# Altium integrated library Xilinx XC18V00.IntLib: 20 symbols (part 2 of 2)
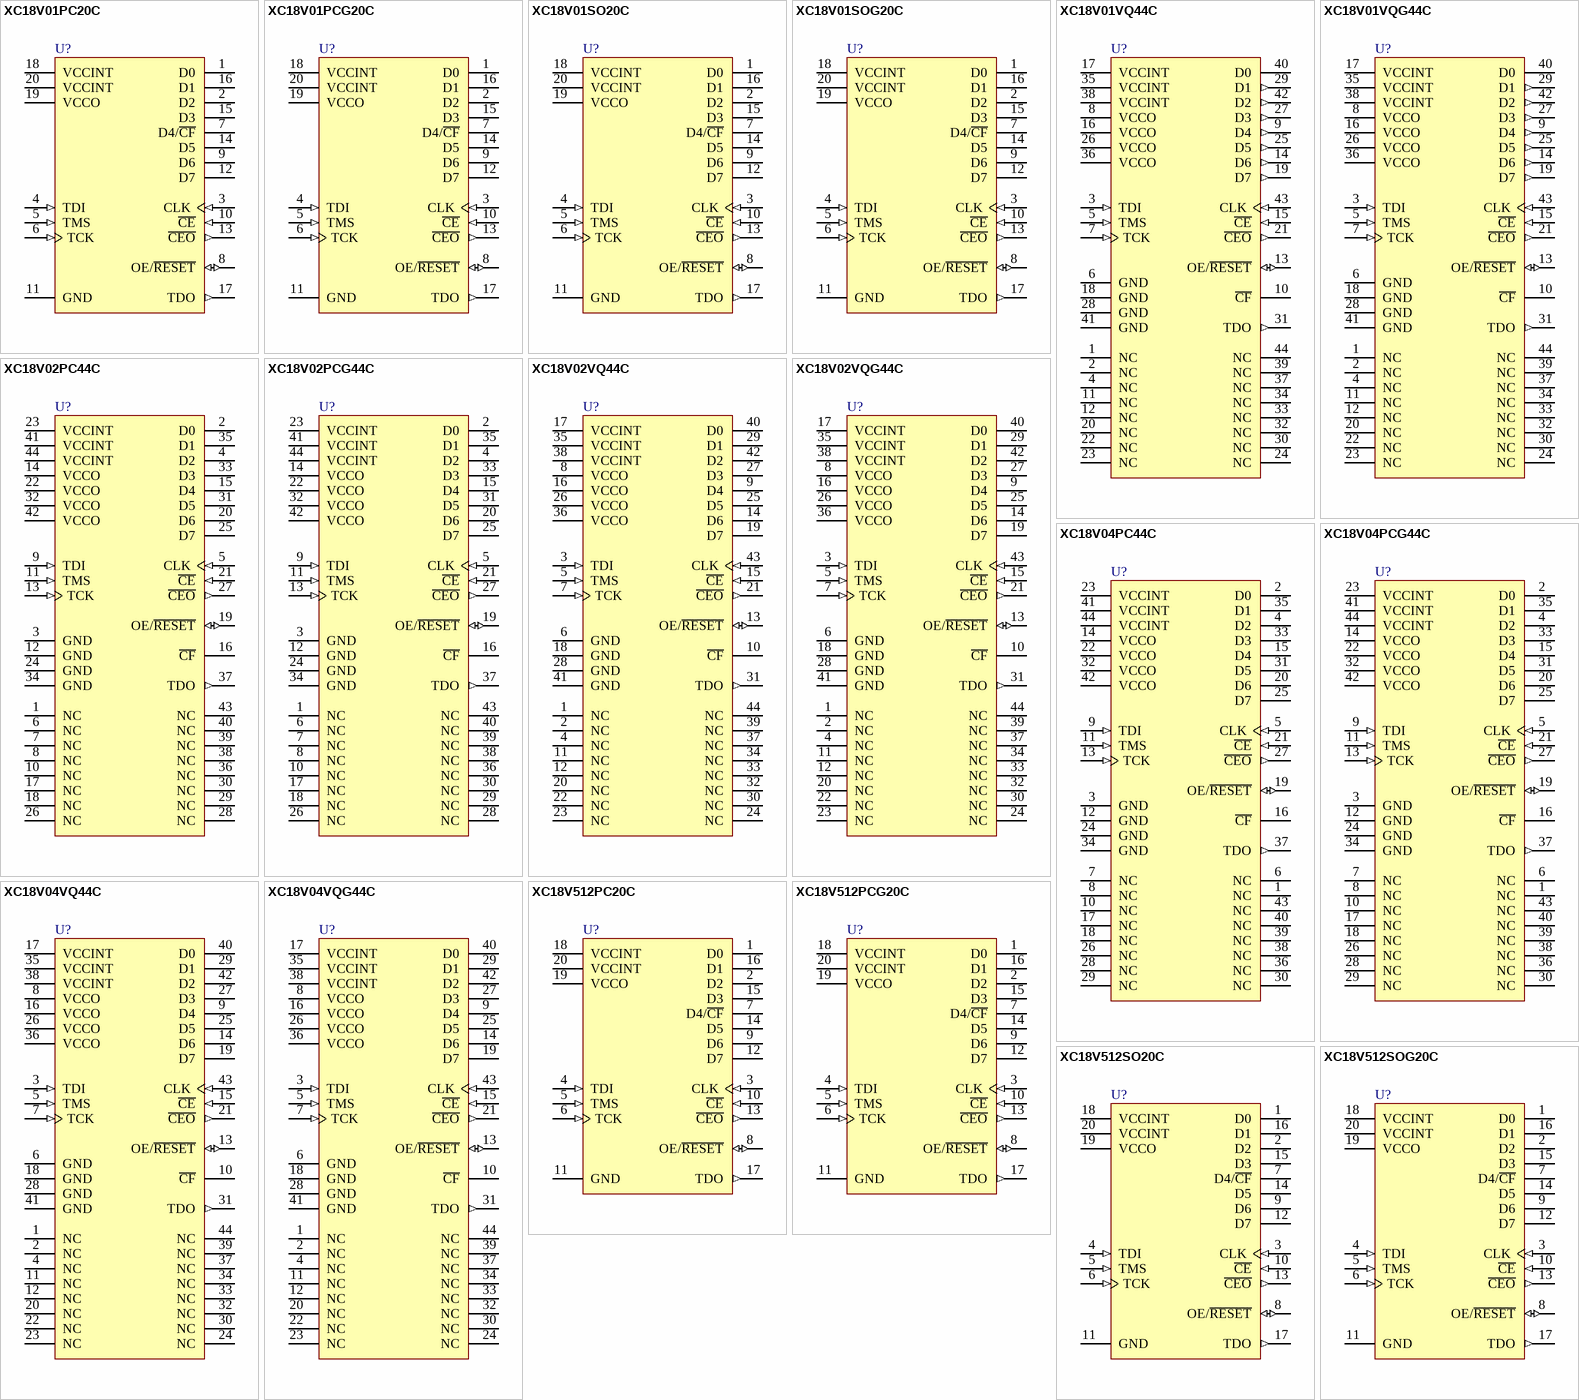
[diagram p2: symbols XC18V01PC20C to XC18V512SOG20C]

## XC18V512SOG20C
designator U?
XC18V00 Series, In-System Programmable Configuration 3.3V PROM, 20-Pin SOIC, 512-Kilobit, Commercial Grade, Pb-Free; Note: For devices with IDCODES 0503x093h VCCINT pin 20 is a no connect (NC) pin.; DatasheetVersion: ver5.2, Jan-2008; PackageVersion: ver1.0, Jun-2000; PackageReference: SOG20; PackageDescription: 20-Pin Small Outline Package (SOG20) - Pb-Free; Code_JEDEC: MS-013-AC; ComponentLink1Description: Manufacturer URL; ComponentLink1URL: http://www.xilinx.com/; ComponentLink2Description: XC18V00 Series Datasheet; ComponentLink2URL: http://www.xilinx.com/support/documentation/data_sheets/ds026.pdf; ComponentLink3Description: SOG20 Package Drawing; ComponentLink3URL: http://www.xilinx.com/support/documentation/package_specs/so20.pdf; ComponentLink4Description: Configuration PROM Documents; ComponentLink4URL: http://www.xilinx.com/support/documentation/configuration_proms.htm
footprint SOG20_N (SOIC, 20-Leads, Body 12.8x7.5mm, Pitch 1.27mm, IPC Medium Density)
footprint SOG20_L (SOIC, 20-Leads, Body 12.8x7.5mm, Pitch 1.27mm, IPC High Density)
footprint SOG20_M (SOIC, 20-Leads, Body 12.8x7.5mm, Pitch 1.27mm, IPC Low Density)
pins: 1 D0 (hiz) "Data Output pin for configuring a Xilinx FPGA in serial mode.", 2 D2 (hiz) "Data Output pin for configuring a Xilinx FPGA in Slave-Parallel/SelectMap mode.", 3 CLK (in) "Configuration Clock Input.", 4 TDI (in) "JTAG Serial Data Input.", 5 TMS (in) "JTAG Mode Select Input.", 6 TCK (in) "JTAG Test Clock Input.", 7 D4/~{CF} (hiz) "Data Output / Configuration Pulse .", 8 OE/~{RESET} (io) "Output Enable/Reset (Open-Drain I/O).", 9 D6 (hiz) "Data Output pin for configuring a Xilinx FPGA in Slave-Parallel/SelectMap mode.", 10 ~{CE} (in) "Chip Enable Input.", 11 GND (power) "Ground", 12 D7 (hiz) "Data Output pin for configuring a Xilinx FPGA in Slave-Parallel/SelectMap mode.", 13 ~{CEO} (out) "Chip Enable Output, connects to the CE input of the next PROM in the chain.", 14 D5 (hiz) "Data Output pin for configuring a Xilinx FPGA in Slave-Parallel/SelectMap mode.", 15 D3 (hiz) "Data Output pin for configuring a Xilinx FPGA in Slave-Parallel/SelectMap mode.", 16 D1 (hiz) "Data Output pin for configuring a Xilinx FPGA in Slave-Parallel/SelectMap mode.", 17 TDO (out) "JTAG Serial Data Output.", 18 VCCINT (power) "+3.3V supply for internal logic.", 19 VCCO (power) "+3.3V or +2.5V supply voltage.", 20 VCCINT (power) "+3.3V supply for internal logic."

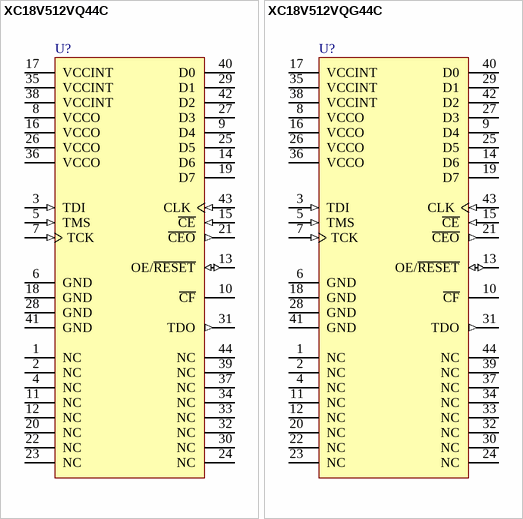
[diagram p1: symbols XC18V512VQ44C to XC18V512VQG44C]

## XC18V512VQ44C
designator U?
XC18V00 Series, In-System Programmable Configuration 3.3V PROM, 44-Pin VQFP, 512-Kilobit, Commercial Grade; Note: For devices with IDCODES 0503x093h VCCINT pin 38 is a no connect (NC) pin.; DatasheetVersion: ver5.2, Jan-2008; PackageVersion: ver1.2, Jun-2004; PackageReference: VQ44; PackageDescription: 44-Pin Very Thin Quad Flat Pack (VQ44); Code_JEDEC: MS-026-ACB; ComponentLink1Description: Manufacturer URL; ComponentLink1URL: http://www.xilinx.com/; ComponentLink2Description: XC18V00 Series Datasheet; ComponentLink2URL: http://www.xilinx.com/support/documentation/data_sheets/ds026.pdf; ComponentLink3Description: VQ44 Package Drawing; ComponentLink3URL: http://www.xilinx.com/support/documentation/package_specs/vq44.pdf; ComponentLink4Description: Configuration PROM Documents; ComponentLink4URL: http://www.xilinx.com/support/documentation/configuration_proms.htm
footprint VQ44_N (Thin QFP, 44-Leads, Body 10x10mm, Pitch 0.8mm, IPC Medium Density)
footprint VQ44_L (Thin QFP, 44-Leads, Body 10x10mm, Pitch 0.8mm, IPC High Density)
footprint VQ44_M (Thin QFP, 44-Leads, Body 10x10mm, Pitch 0.8mm, IPC Low Density)
pins: 1 NC "No Connect", 2 NC "No Connect", 3 TDI (in) "JTAG Serial Data Input.", 4 NC "No Connect", 5 TMS (in) "JTAG Mode Select Input.", 6 GND (power) "Ground", 7 TCK (in) "JTAG Test Clock Input.", 8 VCCO (power) "+3.3V or +2.5V supply voltage.", 9 D4 (hiz) "Data Output pin for configuring a Xilinx FPGA in Slave-Parallel/SelectMap mode.", 10 ~{CF} (oc) "Configuration Pulse (Open-Drain Output).", 11 NC "No Connect", 12 NC "No Connect", 13 OE/~{RESET} (io) "Output Enable/Reset (Open-Drain I/O).", 14 D6 (hiz) "Data Output pin for configuring a Xilinx FPGA in Slave-Parallel/SelectMap mode.", 15 ~{CE} (in) "Chip Enable Input.", 16 VCCO (power) "+3.3V or +2.5V supply voltage.", 17 VCCINT (power) "+3.3V supply for internal logic.", 18 GND (power) "Ground", 19 D7 (hiz) "Data Output pin for configuring a Xilinx FPGA in Slave-Parallel/SelectMap mode.", 20 NC "No Connect", 21 ~{CEO} (out) "Chip Enable Output, connects to the CE input of the next PROM in the chain.", 22 NC "No Connect", 23 NC "No Connect", 24 NC "No Connect", 25 D5 (hiz) "Data Output pin for configuring a Xilinx FPGA in Slave-Parallel/SelectMap mode.", 26 VCCO (power) "+3.3V or +2.5V supply voltage.", 27 D3 (hiz) "Data Output pin for configuring a Xilinx FPGA in Slave-Parallel/SelectMap mode.", 28 GND (power) "Ground", 29 D1 (hiz) "Data Output pin for configuring a Xilinx FPGA in Slave-Parallel/SelectMap mode.", 30 NC "No Connect", 31 TDO (out) "JTAG Serial Data Output.", 32 NC "No Connect", 33 NC "No Connect", 34 NC "No Connect", 35 VCCINT (power) "+3.3V supply for internal logic.", 36 VCCO (power) "+3.3V or +2.5V supply voltage.", 37 NC "No Connect", 38 VCCINT (power) "+3.3V supply for internal logic.", 39 NC "No Connect", 40 D0 (hiz) "Data Output pin for configuring a Xilinx FPGA in serial mode.", 41 GND (power) "Ground", 42 D2 (hiz) "Data Output pin for configuring a Xilinx FPGA in Slave-Parallel/SelectMap mode.", 43 CLK (in) "Configuration Clock Input.", 44 NC "No Connect"

## XC18V512VQG44C
designator U?
XC18V00 Series, In-System Programmable Configuration 3.3V PROM, 44-Pin VQFP, 512-Kilobit, Commercial Grade, Pb-Free; Note: For devices with IDCODES 0503x093h VCCINT pin 38 is a no connect (NC) pin.; DatasheetVersion: ver5.2, Jan-2008; PackageVersion: ver1.2, Jun-2004; PackageReference: VQG44; PackageDescription: 44-Pin Very Thin Quad Flat Pack (VQG44) - Pb-Free; Code_JEDEC: MS-026-ACB; ComponentLink1Description: Manufacturer URL; ComponentLink1URL: http://www.xilinx.com/; ComponentLink2Description: XC18V00 Series Datasheet; ComponentLink2URL: http://www.xilinx.com/support/documentation/data_sheets/ds026.pdf; ComponentLink3Description: VQG44 Package Drawing; ComponentLink3URL: http://www.xilinx.com/support/documentation/package_specs/vq44.pdf; ComponentLink4Description: Configuration PROM Documents; ComponentLink4URL: http://www.xilinx.com/support/documentation/configuration_proms.htm
footprint VQG44_N (Thin QFP, 44-Leads, Body 10x10mm, Pitch 0.8mm, IPC Medium Density)
footprint VQG44_L (Thin QFP, 44-Leads, Body 10x10mm, Pitch 0.8mm, IPC High Density)
footprint VQG44_M (Thin QFP, 44-Leads, Body 10x10mm, Pitch 0.8mm, IPC Low Density)
pins: 1 NC "No Connect", 2 NC "No Connect", 3 TDI (in) "JTAG Serial Data Input.", 4 NC "No Connect", 5 TMS (in) "JTAG Mode Select Input.", 6 GND (power) "Ground", 7 TCK (in) "JTAG Test Clock Input.", 8 VCCO (power) "+3.3V or +2.5V supply voltage.", 9 D4 (hiz) "Data Output pin for configuring a Xilinx FPGA in Slave-Parallel/SelectMap mode.", 10 ~{CF} (oc) "Configuration Pulse (Open-Drain Output).", 11 NC "No Connect", 12 NC "No Connect", 13 OE/~{RESET} (io) "Output Enable/Reset (Open-Drain I/O).", 14 D6 (hiz) "Data Output pin for configuring a Xilinx FPGA in Slave-Parallel/SelectMap mode.", 15 ~{CE} (in) "Chip Enable Input.", 16 VCCO (power) "+3.3V or +2.5V supply voltage.", 17 VCCINT (power) "+3.3V supply for internal logic.", 18 GND (power) "Ground", 19 D7 (hiz) "Data Output pin for configuring a Xilinx FPGA in Slave-Parallel/SelectMap mode.", 20 NC "No Connect", 21 ~{CEO} (out) "Chip Enable Output, connects to the CE input of the next PROM in the chain.", 22 NC "No Connect", 23 NC "No Connect", 24 NC "No Connect", 25 D5 (hiz) "Data Output pin for configuring a Xilinx FPGA in Slave-Parallel/SelectMap mode.", 26 VCCO (power) "+3.3V or +2.5V supply voltage.", 27 D3 (hiz) "Data Output pin for configuring a Xilinx FPGA in Slave-Parallel/SelectMap mode.", 28 GND (power) "Ground", 29 D1 (hiz) "Data Output pin for configuring a Xilinx FPGA in Slave-Parallel/SelectMap mode.", 30 NC "No Connect", 31 TDO (out) "JTAG Serial Data Output.", 32 NC "No Connect", 33 NC "No Connect", 34 NC "No Connect", 35 VCCINT (power) "+3.3V supply for internal logic.", 36 VCCO (power) "+3.3V or +2.5V supply voltage.", 37 NC "No Connect", 38 VCCINT (power) "+3.3V supply for internal logic.", 39 NC "No Connect", 40 D0 (hiz) "Data Output pin for configuring a Xilinx FPGA in serial mode.", 41 GND (power) "Ground", 42 D2 (hiz) "Data Output pin for configuring a Xilinx FPGA in Slave-Parallel/SelectMap mode.", 43 CLK (in) "Configuration Clock Input.", 44 NC "No Connect"